# EAGLE library part ATMEGA328-PB (library GLEE_Testing_01_Advait)
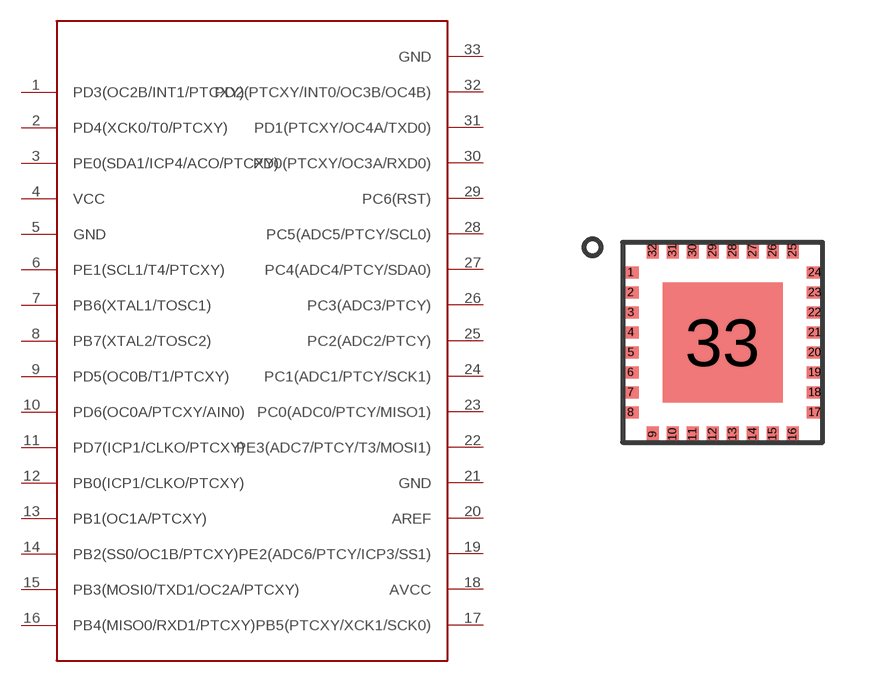
[diagram p1: symbol with the pads of ATMEGA328-PB; footprint ATMEGA328-PB]

Designator prefix IC

## ATMEGA328-PB  [ATMEGA328-PB]
1  PD3(OC2B/INT1/PTCXY)
2  PD4(XCK0/T0/PTCXY)
3  PE0(SDA1/ICP4/ACO/PTCXY)
4  VCC
5  GND
6  PE1(SCL1/T4/PTCXY)
7  PB6(XTAL1/TOSC1)
8  PB7(XTAL2/TOSC2)
9  PD5(OC0B/T1/PTCXY)
10  PD6(OC0A/PTCXY/AIN0)
11  PD7(ICP1/CLKO/PTCXY)
12  PB0(ICP1/CLKO/PTCXY)
13  PB1(OC1A/PTCXY)
14  PB2(SS0/OC1B/PTCXY)
15  PB3(MOSI0/TXD1/OC2A/PTCXY)
16  PB4(MISO0/RXD1/PTCXY)
17  PB5(PTCXY/XCK1/SCK0)
18  AVCC
19  PE2(ADC6/PTCY/ICP3/SS1)
20  AREF
21  GND
22  PE3(ADC7/PTCY/T3/MOSI1)
23  PC0(ADC0/PTCY/MISO1)
24  PC1(ADC1/PTCY/SCK1)
25  PC2(ADC2/PTCY)
26  PC3(ADC3/PTCY)
27  PC4(ADC4/PTCY/SDA0)
28  PC5(ADC5/PTCY/SCL0)
29  PC6(RST)
30  PD0(PTCXY/OC3A/RXD0)
31  PD1(PTCXY/OC4A/TXD0)
32  PD2(PTCXY/INT0/OC3B/OC4B)
33  GND

## Footprint ATMEGA328-PB (pad centres in mm)
smd 0.4 x 0.3: 1 -2.3,1.75; 2 -2.3,1.25; 3 -2.3,0.75; 4 -2.3,0.25; 5 -2.3,-0.25; 6 -2.3,-0.75; 7 -2.3,-1.25; 8 -2.3,-1.75; 17 2.3,-1.75; 18 2.3,-1.25; 19 2.3,-0.75; 20 2.3,-0.25; 21 2.3,0.25; 22 2.3,0.75; 23 2.3,1.25; 24 2.3,1.75
smd 0.3 x 0.4: 9 -1.75,-2.3; 10 -1.25,-2.3; 11 -0.75,-2.3; 12 -0.25,-2.3; 13 0.25,-2.3; 14 0.75,-2.3; 15 1.25,-2.3; 16 1.75,-2.3; 25 1.75,2.3; 26 1.25,2.3; 27 0.75,2.3; 28 0.25,2.3; 29 -0.25,2.3; 30 -0.75,2.3; 31 -1.25,2.3; 32 -1.75,2.3
smd 3 x 3: 33 0,0